# Altium schematic symbol library SCH - POWER - SWITCHMODE - TI TPS622314-Q1_DRY_6.SchLib: 1 symbol
Pins are listed as number, name and electrical type; pins without a type are passive.

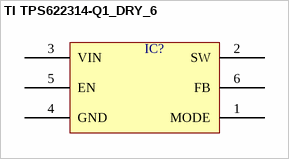
[diagram p0: symbol TI TPS622314-Q1_DRY_6]

## TI TPS622314-Q1_DRY_6
designator IC?  (value not drawn)
pins: 1 MODE, 2 SW, 3 VIN, 4 GND, 5 EN, 6 FB